# Altium schematic symbol library RES_SMD_1210.SchLib: 1 symbol
Pins are listed as number, name and electrical type; pins without a type are passive.

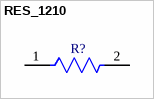
[diagram p0: symbol RES_1210]

## RES_1210
designator R?  (value not drawn)
footprint RES_SMD_1210_IPC_A
footprint RES_SMD_1210_MFG
footprint RES_SMD_1210_IPC_B
footprint RES_SMD_1210_IPC_C
pins: 1, 2